# Altium schematic symbol library Fasteners.SchLib: 2 symbols
Pins are listed as number, name and electrical type; pins without a type are passive.

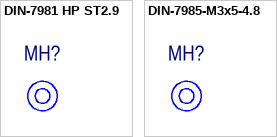
[diagram p0: symbols DIN-7981 HP ST2.9 to DIN-7985-M3x5-4.8]

## DIN-7981 HP ST2.9
designator MH?  (value not drawn)  (no BOM)
footprint DIN-7981 HP T81-ST2.9x6.5 (Mounting hole for self-screw DIN-7981 HP T81-ST2.9)

## DIN-7985-M3x5-4.8
designator MH?  (value not drawn)
footprint DIN-7985-M3X5-4.8 (Винты с полуцилиндрической головкой и  крестообразным шлицем)